# EAGLE library part IRF7910 (library aoba)
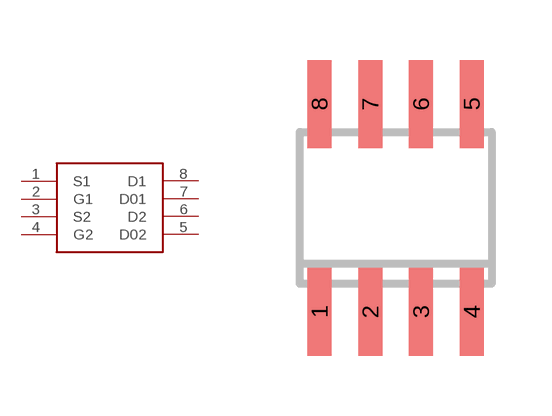
[diagram p4: symbol with the pads of SO-08; footprint SO-08]

Designator prefix -

## IRF7910  [SO-08]
1  S1  in
2  G1  out
3  S2  in
4  G2  pwr
5  D02  in
6  D2  in
7  D01  in
8  D1  pwr

## Footprint SO-08 (pad centres in mm)
smd 0.6 x 2.2: 1 -1.815,-2.74; 2 -0.545,-2.74; 3 0.725,-2.74; 4 1.995,-2.74; 5 1.995,2.46; 6 0.725,2.46; 7 -0.545,2.46; 8 -1.815,2.46